# EAGLE library part SN54HC595 (library library)
Dual In Line / Socket
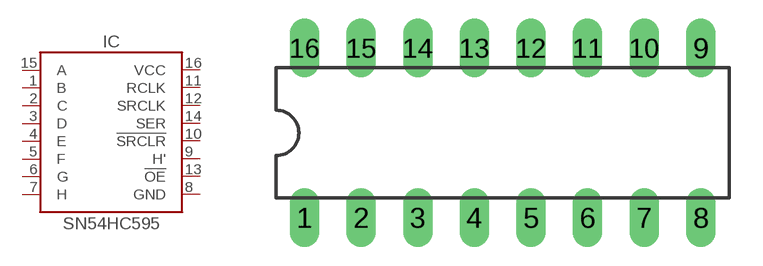
[diagram p3: symbol with the pads of SN54HC595; footprint SN54HC595]

Designator prefix IC

## SN54HC595  [SN54HC595]
1  B  out
2  C  out
3  D  out
4  E  out
5  F  out
6  G  out
7  H  out
8  GND  sup
9  H'  out
10  !SRCLR!  in
11  RCLK  in
12  SRCLK  in
13  !OE!  pas
14  SER  in
15  A  out
16  VCC  pwr

## Footprint SN54HC595 (pad centres in mm)
Dual In Line Package
drill 0.813 long: 1 -8.89,-3.81; 2 -6.35,-3.81; 3 -3.81,-3.81; 4 -1.27,-3.81; 5 1.27,-3.81; 6 3.81,-3.81; 7 6.35,-3.81; 8 8.89,-3.81; 9 8.89,3.81; 10 6.35,3.81; 11 3.81,3.81; 12 1.27,3.81; 13 -1.27,3.81; 14 -3.81,3.81; 15 -6.35,3.81; 16 -8.89,3.81